# EAGLE library part TDA8568Q/TDA8569Q (library Audio-Power-amlifier V.2.0)
Philips TDA8568Q 4 x 25 W BTL quad car radio power amplifier, TDA8569Q 4 ´ 40 W BTL quad car radio power amplifier http://www.datasheetcatalog.com/datasheets_pdf/T/D/A/8/TDA8568Q.shtml
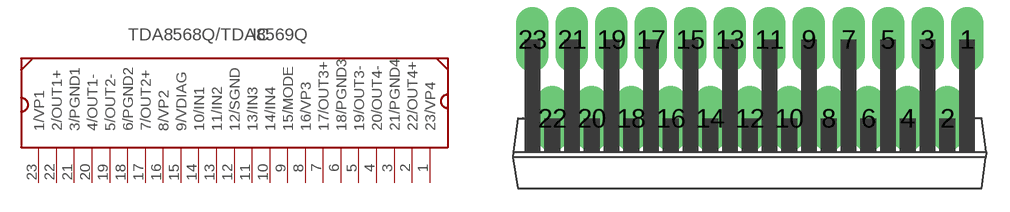
[diagram p55: symbol with the pads of SOT411-1; footprint SOT411-1]

Designator prefix IC

## TDA8568Q/TDA8569Q  [SOT411-1]
1  23/VP4  pwr
2  22/OUT4+  out
3  21/PGND4  pwr
4  20/OUT4-  out
5  19/OUT3-  out
6  18/PGND3  pwr
7  17/OUT3+  out
8  16/VP3  pwr
9  15/MODE
10  14/IN4  in
11  13/IN3  in
12  12/SGND  pwr
13  11/IN2  in
14  10/IN1  in
15  9/VDIAG
16  8/VP2  pwr
17  7/OUT2+  out
18  6/PGND2  pwr
19  5/OUT2-  out
20  4/OUT1-  out
21  3/PGND1  pwr
22  2/OUT1+  out
23  1/VP1  pwr

## Footprint SOT411-1 (pad centres in mm)
drill 1.4 long: 1 13.97,5.08; 2 12.7,0; 3 11.43,5.08; 4 10.16,0; 5 8.89,5.08; 6 7.62,0; 7 6.35,5.08; 8 5.08,0; 9 3.81,5.08; 10 2.54,0; 11 1.27,5.08; 12 0,0; 13 -1.27,5.08; 14 -2.54,0; 15 -3.81,5.08; 16 -5.08,0; 17 -6.35,5.08; 18 -7.62,0; 19 -8.89,5.08; 20 -10.16,0; 21 -11.43,5.08; 22 -12.7,0; 23 -13.97,5.08